# Altium footprint library SM_DFN8_2x2.PcbLib: 1 footprints
Each footprint in its own frame and in the unit in brackets; x right, y up, seen from the top. Pads: shape width x height; smd on the part's side, far side on the other; paste and mask are expansions set on the pad; w line width, h text height; cw(c..) or ccw(c..) is an arc to the next point about the centre after c.
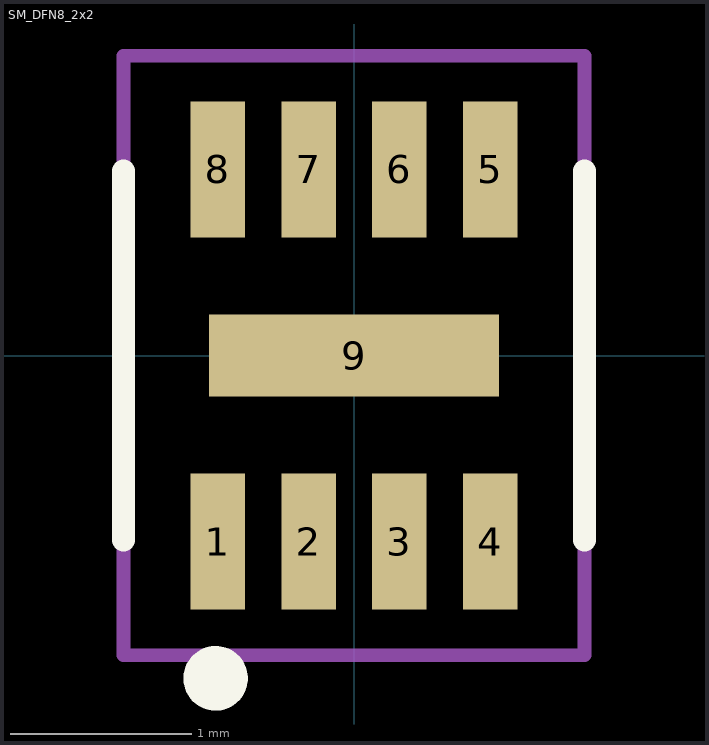
[diagram p0: the footprint, top view; thin cyan lines are the x and y axes]

## SM_DFN8_2x2 [mm]
height 0.6
pads (9):
  rect 0.3x0.75 smd mask+0.076: 1(-0.75,-1.025) 2(-0.25,-1.025) 3(0.25,-1.025) 4(0.75,-1.025) 5(0.75,1.025) 6(0.25,1.025) 7(-0.25,1.025) 8(-0.75,1.025)
  rect 1.6x0.45 smd mask+0.076: 9(0,0)
Top Overlay:
  circle w0.203: c-0.762,-1.778 r0.076
  lines w0.127: -1.27,-1.016 -1.27,1.016 ; 1.27,-1.016 1.27,1.016
Mechanical 15:
  lines w0.076: -1.27,-1.651 -0.254,-1.651 1.27,-1.651 1.27,0.127 1.27,1.651 -1.27,1.651 -1.27,-1.651
3D body: height 0.6, standoff 0, extent -1.075,-1.075 1.075,1.075